# EAGLE library part SAM3S4B (library atmel_sam)
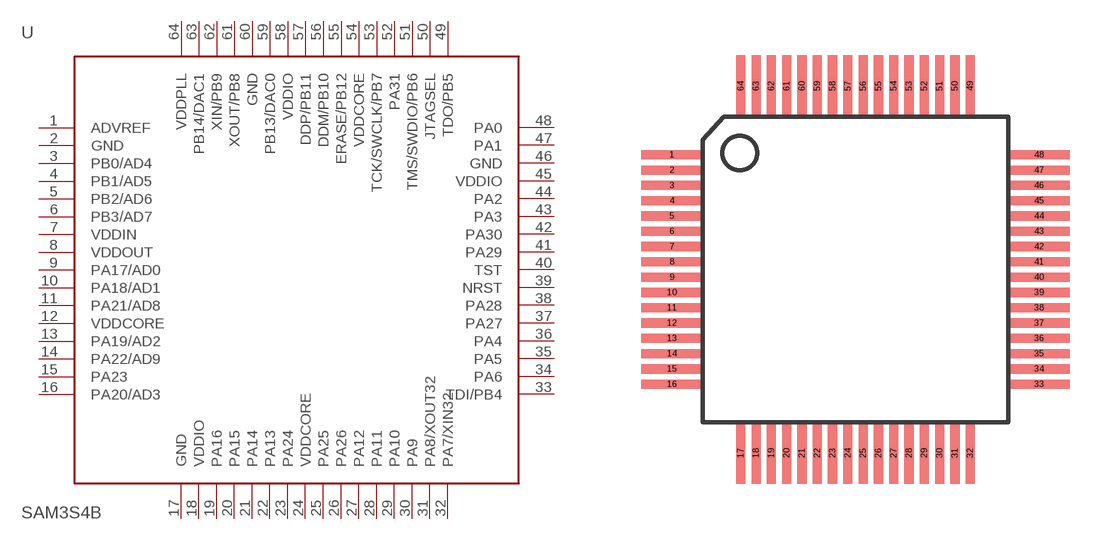
[diagram p2: symbol with the pads of LQFP64; footprint LQFP64]

Designator prefix U

## SAM3S4B  [LQFP64]
1  ADVREF
2  GND
3  PB0/AD4
4  PB1/AD5
5  PB2/AD6
6  PB3/AD7
7  VDDIN
8  VDDOUT
9  PA17/AD0
10  PA18/AD1
11  PA21/AD8
12  VDDCORE
13  PA19/AD2
14  PA22/AD9
15  PA23
16  PA20/AD3
17  GND
18  VDDIO
19  PA16
20  PA15
21  PA14
22  PA13
23  PA24
24  VDDCORE
25  PA25
26  PA26
27  PA12
28  PA11
29  PA10
30  PA9
31  PA8/XOUT32
32  PA7/XIN32
33  TDI/PB4
34  PA6
35  PA5
36  PA4
37  PA27
38  PA28
39  NRST
40  TST
41  PA29
42  PA30
43  PA3
44  PA2
45  VDDIO
46  GND
47  PA1
48  PA0
49  TDO/PB5
50  JTAGSEL
51  TMS/SWDIO/PB6
52  PA31
53  TCK/SWCLK/PB7
54  VDDCORE
55  ERASE/PB12
56  DDM/PB10
57  DDP/PB11
58  VDDIO
59  PB13/DAC0
60  GND
61  XOUT/PB8
62  XIN/PB9
63  PB14/DAC1
64  VDDPLL

## Footprint LQFP64 (pad centres in mm)
smd 2 x 0.3: 1 -6,3.75; 2 -6,3.25; 3 -6,2.75; 4 -6,2.25; 5 -6,1.75; 6 -6,1.25; 7 -6,0.75; 8 -6,0.25; 9 -6,-0.25; 10 -6,-0.75; 11 -6,-1.25; 12 -6,-1.75; 13 -6,-2.25; 14 -6,-2.75; 15 -6,-3.25; 16 -6,-3.75; 33 6,-3.75; 34 6,-3.25; 35 6,-2.75; 36 6,-2.25; 37 6,-1.75; 38 6,-1.25; 39 6,-0.75; 40 6,-0.25; 41 6,0.25; 42 6,0.75; 43 6,1.25; 44 6,1.75; 45 6,2.25; 46 6,2.75; 47 6,3.25; 48 6,3.75
smd 0.3 x 2: 17 -3.75,-6; 18 -3.25,-6; 19 -2.75,-6; 20 -2.25,-6; 21 -1.75,-6; 22 -1.25,-6; 23 -0.75,-6; 24 -0.25,-6; 25 0.25,-6; 26 0.75,-6; 27 1.25,-6; 28 1.75,-6; 29 2.25,-6; 30 2.75,-6; 31 3.25,-6; 32 3.75,-6; 49 3.75,6; 50 3.25,6; 51 2.75,6; 52 2.25,6; 53 1.75,6; 54 1.25,6; 55 0.75,6; 56 0.25,6; 57 -0.25,6; 58 -0.75,6; 59 -1.25,6; 60 -1.75,6; 61 -2.25,6; 62 -2.75,6; 63 -3.25,6; 64 -3.75,6